# Altium footprint library JST-XH.PcbLib: 31 footprints (part 2 of 2)
Each footprint in its own frame and in the unit in brackets; x right, y up, seen from the top. Pads: shape width x height; smd on the part's side, far side on the other; paste and mask are expansions set on the pad; w line width, h text height; cw(c..) or ccw(c..) is an arc to the next point about the centre after c.
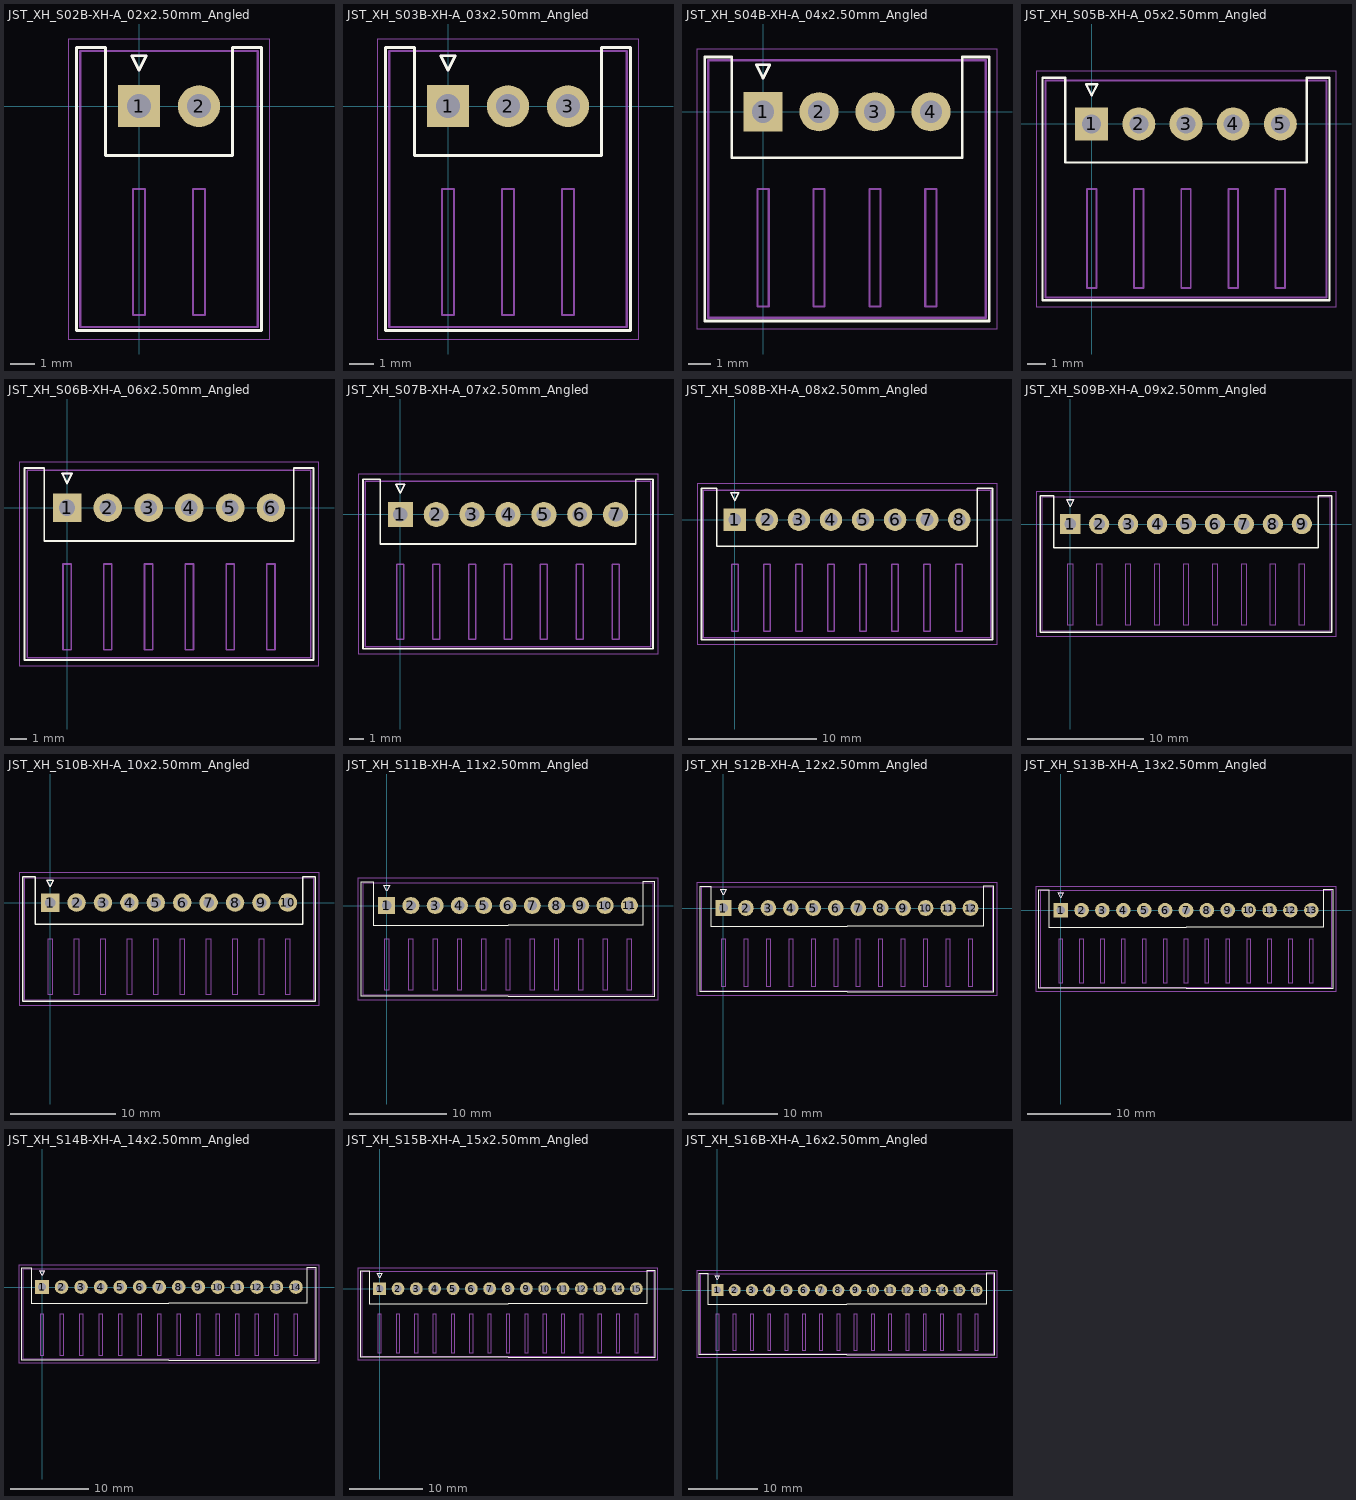
[diagram p1: the footprints below, top view; thin cyan lines are the x and y axes]

## JST_XH_S02B-XH-A_02x2.50mm_Angled [mm]
pads (2):
  rect 1.75x1.75 hole 1: 1(0,0)
  round 1.75 hole 1: 2(2.5,0)
F.SilkS:
  lines w0.12: -2.6,-9.35 1.25,-9.35 5.1,-9.35 5.1,2.45 3.9,2.45 3.9,-2.05 1.25,-2.05 -1.4,-2.05 -1.4,2.45 -2.6,2.45 -2.6,-9.35 ; -0.3,2.1 0,1.5 0.3,2.1 -0.3,2.1
F.CrtYd:
  lines w0.05: -2.95,-9.7 -2.95,2.8 5.45,2.8 5.45,-9.7 -2.95,-9.7
F.Fab:
  lines w0.1: -2.45,-9.2 -2.45,2.3 4.95,2.3 4.95,-9.2 -2.45,-9.2 ; -0.3,2.1 0,1.5 0.3,2.1 -0.3,2.1 ; -0.25,-8.7 -0.25,-3.45 0.25,-3.45 0.25,-8.7 -0.25,-8.7 ; 2.25,-8.7 2.25,-3.45 2.75,-3.45 2.75,-8.7 2.25,-8.7
  text "'.Designator'" at -0.189,-2.648 h1

## JST_XH_S03B-XH-A_03x2.50mm_Angled [mm]
pads (3):
  rect 1.75x1.75 hole 1: 1(0,0)
  round 1.75 hole 1: 2(2.5,0) 3(5,0)
F.SilkS:
  lines w0.12: -2.6,-9.35 2.5,-9.35 7.6,-9.35 7.6,2.45 6.4,2.45 6.4,-2.05 2.5,-2.05 -1.4,-2.05 -1.4,2.45 -2.6,2.45 -2.6,-9.35 ; -0.3,2.1 0,1.5 0.3,2.1 -0.3,2.1
F.CrtYd:
  lines w0.05: -2.95,-9.7 -2.95,2.8 7.95,2.8 7.95,-9.7 -2.95,-9.7
F.Fab:
  lines w0.1: -2.45,-9.2 -2.45,2.3 7.45,2.3 7.45,-9.2 -2.45,-9.2 ; -0.3,2.1 0,1.5 0.3,2.1 -0.3,2.1 ; -0.25,-8.7 -0.25,-3.45 0.25,-3.45 0.25,-8.7 -0.25,-8.7 ; 2.25,-8.7 2.25,-3.45 2.75,-3.45 2.75,-8.7 2.25,-8.7 ; 4.75,-8.7 4.75,-3.45 5.25,-3.45 5.25,-8.7 4.75,-8.7
  text "'.Designator'" at 1.061,-2.648 h1

## JST_XH_S04B-XH-A_04x2.50mm_Angled [mm]
pads (4):
  rect 1.75x1.75 hole 1: 1(0,0)
  round 1.75 hole 1: 2(2.5,0) 3(5,0) 4(7.5,0)
F.SilkS:
  lines w0.12: -2.6,-9.35 3.75,-9.35 10.1,-9.35 10.1,2.45 8.9,2.45 8.9,-2.05 3.75,-2.05 -1.4,-2.05 -1.4,2.45 -2.6,2.45 -2.6,-9.35 ; -0.3,2.1 0,1.5 0.3,2.1 -0.3,2.1
F.CrtYd:
  lines w0.05: -2.95,-9.7 -2.95,2.8 10.45,2.8 10.45,-9.7 -2.95,-9.7
F.Fab:
  lines w0.1: -2.45,-9.2 -2.45,2.3 9.95,2.3 9.95,-9.2 -2.45,-9.2 ; -0.3,2.1 0,1.5 0.3,2.1 -0.3,2.1 ; -0.25,-8.7 -0.25,-3.45 0.25,-3.45 0.25,-8.7 -0.25,-8.7 ; 2.25,-8.7 2.25,-3.45 2.75,-3.45 2.75,-8.7 2.25,-8.7 ; 4.75,-8.7 4.75,-3.45 5.25,-3.45 5.25,-8.7 4.75,-8.7 ; 7.25,-8.7 7.25,-3.45 7.75,-3.45 7.75,-8.7 7.25,-8.7
  text "'.Designator'" at 2.311,-2.648 h1

## JST_XH_S05B-XH-A_05x2.50mm_Angled [mm]
pads (5):
  rect 1.75x1.75 hole 1: 1(0,0)
  round 1.75 hole 1: 2(2.5,0) 3(5,0) 4(7.5,0) 5(10,0)
F.SilkS:
  lines w0.12: -2.6,-9.35 5,-9.35 12.6,-9.35 12.6,2.45 11.4,2.45 11.4,-2.05 5,-2.05 -1.4,-2.05 -1.4,2.45 -2.6,2.45 -2.6,-9.35 ; -0.3,2.1 0,1.5 0.3,2.1 -0.3,2.1
F.CrtYd:
  lines w0.05: -2.95,-9.7 -2.95,2.8 12.95,2.8 12.95,-9.7 -2.95,-9.7
F.Fab:
  lines w0.1: -2.45,-9.2 -2.45,2.3 12.45,2.3 12.45,-9.2 -2.45,-9.2 ; -0.3,2.1 0,1.5 0.3,2.1 -0.3,2.1 ; -0.25,-8.7 -0.25,-3.45 0.25,-3.45 0.25,-8.7 -0.25,-8.7 ; 2.25,-8.7 2.25,-3.45 2.75,-3.45 2.75,-8.7 2.25,-8.7 ; 4.75,-8.7 4.75,-3.45 5.25,-3.45 5.25,-8.7 4.75,-8.7 ; 7.25,-8.7 7.25,-3.45 7.75,-3.45 7.75,-8.7 7.25,-8.7 ; 9.75,-8.7 9.75,-3.45 10.25,-3.45 10.25,-8.7 9.75,-8.7
  text "'.Designator'" at 3.561,-2.648 h1

## JST_XH_S06B-XH-A_06x2.50mm_Angled [mm]
pads (6):
  rect 1.75x1.75 hole 1: 1(0,0)
  round 1.75 hole 1: 2(2.5,0) 3(5,0) 4(7.5,0) 5(10,0) 6(12.5,0)
F.SilkS:
  lines w0.12: -2.6,-9.35 6.25,-9.35 15.1,-9.35 15.1,2.45 13.9,2.45 13.9,-2.05 6.25,-2.05 -1.4,-2.05 -1.4,2.45 -2.6,2.45 -2.6,-9.35 ; -0.3,2.1 0,1.5 0.3,2.1 -0.3,2.1
F.CrtYd:
  lines w0.05: -2.95,-9.7 -2.95,2.8 15.45,2.8 15.45,-9.7 -2.95,-9.7
F.Fab:
  lines w0.1: -2.45,-9.2 -2.45,2.3 14.95,2.3 14.95,-9.2 -2.45,-9.2 ; -0.3,2.1 0,1.5 0.3,2.1 -0.3,2.1 ; -0.25,-8.7 -0.25,-3.45 0.25,-3.45 0.25,-8.7 -0.25,-8.7 ; 2.25,-8.7 2.25,-3.45 2.75,-3.45 2.75,-8.7 2.25,-8.7 ; 4.75,-8.7 4.75,-3.45 5.25,-3.45 5.25,-8.7 4.75,-8.7 ; 7.25,-8.7 7.25,-3.45 7.75,-3.45 7.75,-8.7 7.25,-8.7 ; 9.75,-8.7 9.75,-3.45 10.25,-3.45 10.25,-8.7 9.75,-8.7 ; 12.25,-8.7 12.25,-3.45 12.75,-3.45 12.75,-8.7 12.25,-8.7
  text "'.Designator'" at 4.811,-2.648 h1

## JST_XH_S07B-XH-A_07x2.50mm_Angled [mm]
pads (7):
  rect 1.75x1.75 hole 1: 1(0,0)
  round 1.75 hole 1: 2(2.5,0) 3(5,0) 4(7.5,0) 5(10,0) 6(12.5,0) 7(15,0)
F.SilkS:
  lines w0.12: -2.6,-9.35 7.5,-9.35 17.6,-9.35 17.6,2.45 16.4,2.45 16.4,-2.05 7.5,-2.05 -1.4,-2.05 -1.4,2.45 -2.6,2.45 -2.6,-9.35 ; -0.3,2.1 0,1.5 0.3,2.1 -0.3,2.1
F.CrtYd:
  lines w0.05: -2.95,-9.7 -2.95,2.8 17.95,2.8 17.95,-9.7 -2.95,-9.7
F.Fab:
  lines w0.1: -2.45,-9.2 -2.45,2.3 17.45,2.3 17.45,-9.2 -2.45,-9.2 ; -0.3,2.1 0,1.5 0.3,2.1 -0.3,2.1 ; -0.25,-8.7 -0.25,-3.45 0.25,-3.45 0.25,-8.7 -0.25,-8.7 ; 2.25,-8.7 2.25,-3.45 2.75,-3.45 2.75,-8.7 2.25,-8.7 ; 4.75,-8.7 4.75,-3.45 5.25,-3.45 5.25,-8.7 4.75,-8.7 ; 7.25,-8.7 7.25,-3.45 7.75,-3.45 7.75,-8.7 7.25,-8.7 ; 9.75,-8.7 9.75,-3.45 10.25,-3.45 10.25,-8.7 9.75,-8.7 ; 12.25,-8.7 12.25,-3.45 12.75,-3.45 12.75,-8.7 12.25,-8.7 ; 14.75,-8.7 14.75,-3.45 15.25,-3.45 15.25,-8.7 14.75,-8.7
  text "'.Designator'" at 6.061,-2.648 h1

## JST_XH_S08B-XH-A_08x2.50mm_Angled [mm]
pads (8):
  rect 1.75x1.75 hole 1: 1(0,0)
  round 1.75 hole 1: 2(2.5,0) 3(5,0) 4(7.5,0) 5(10,0) 6(12.5,0) 7(15,0) 8(17.5,0)
F.SilkS:
  lines w0.12: -2.6,-9.35 8.75,-9.35 20.1,-9.35 20.1,2.45 18.9,2.45 18.9,-2.05 8.75,-2.05 -1.4,-2.05 -1.4,2.45 -2.6,2.45 -2.6,-9.35 ; -0.3,2.1 0,1.5 0.3,2.1 -0.3,2.1
F.CrtYd:
  lines w0.05: -2.95,-9.7 -2.95,2.8 20.45,2.8 20.45,-9.7 -2.95,-9.7
F.Fab:
  lines w0.1: -2.45,-9.2 -2.45,2.3 19.95,2.3 19.95,-9.2 -2.45,-9.2 ; -0.3,2.1 0,1.5 0.3,2.1 -0.3,2.1 ; -0.25,-8.7 -0.25,-3.45 0.25,-3.45 0.25,-8.7 -0.25,-8.7 ; 2.25,-8.7 2.25,-3.45 2.75,-3.45 2.75,-8.7 2.25,-8.7 ; 4.75,-8.7 4.75,-3.45 5.25,-3.45 5.25,-8.7 4.75,-8.7 ; 7.25,-8.7 7.25,-3.45 7.75,-3.45 7.75,-8.7 7.25,-8.7 ; 9.75,-8.7 9.75,-3.45 10.25,-3.45 10.25,-8.7 9.75,-8.7 ; 12.25,-8.7 12.25,-3.45 12.75,-3.45 12.75,-8.7 12.25,-8.7 ; 14.75,-8.7 14.75,-3.45 15.25,-3.45 15.25,-8.7 14.75,-8.7 ; 17.25,-8.7 17.25,-3.45 17.75,-3.45 17.75,-8.7 17.25,-8.7
  text "'.Designator'" at 7.311,-2.648 h1

## JST_XH_S09B-XH-A_09x2.50mm_Angled [mm]
pads (9):
  rect 1.75x1.75 hole 1: 1(0,0)
  round 1.75 hole 1: 2(2.5,0) 3(5,0) 4(7.5,0) 5(10,0) 6(12.5,0) 7(15,0) 8(17.5,0) 9(20,0)
F.SilkS:
  lines w0.12: -2.6,-9.35 10,-9.35 22.6,-9.35 22.6,2.45 21.4,2.45 21.4,-2.05 10,-2.05 -1.4,-2.05 -1.4,2.45 -2.6,2.45 -2.6,-9.35 ; -0.3,2.1 0,1.5 0.3,2.1 -0.3,2.1
F.CrtYd:
  lines w0.05: -2.95,-9.7 -2.95,2.8 22.95,2.8 22.95,-9.7 -2.95,-9.7
F.Fab:
  lines w0.1: -2.45,-9.2 -2.45,2.3 22.45,2.3 22.45,-9.2 -2.45,-9.2 ; -0.3,2.1 0,1.5 0.3,2.1 -0.3,2.1 ; -0.25,-8.7 -0.25,-3.45 0.25,-3.45 0.25,-8.7 -0.25,-8.7 ; 2.25,-8.7 2.25,-3.45 2.75,-3.45 2.75,-8.7 2.25,-8.7 ; 4.75,-8.7 4.75,-3.45 5.25,-3.45 5.25,-8.7 4.75,-8.7 ; 7.25,-8.7 7.25,-3.45 7.75,-3.45 7.75,-8.7 7.25,-8.7 ; 9.75,-8.7 9.75,-3.45 10.25,-3.45 10.25,-8.7 9.75,-8.7 ; 12.25,-8.7 12.25,-3.45 12.75,-3.45 12.75,-8.7 12.25,-8.7 ; 14.75,-8.7 14.75,-3.45 15.25,-3.45 15.25,-8.7 14.75,-8.7 ; 17.25,-8.7 17.25,-3.45 17.75,-3.45 17.75,-8.7 17.25,-8.7 ; 19.75,-8.7 19.75,-3.45 20.25,-3.45 20.25,-8.7 19.75,-8.7
  text "'.Designator'" at 8.561,-2.648 h1

## JST_XH_S10B-XH-A_10x2.50mm_Angled [mm]
pads (10):
  rect 1.75x1.75 hole 1: 1(0,0)
  round 1.75 hole 1: 2(2.5,0) 3(5,0) 4(7.5,0) 5(10,0) 6(12.5,0) 7(15,0) 8(17.5,0) 9(20,0) 10(22.5,0)
F.SilkS:
  lines w0.12: -2.6,-9.35 11.25,-9.35 25.1,-9.35 25.1,2.45 23.9,2.45 23.9,-2.05 11.25,-2.05 -1.4,-2.05 -1.4,2.45 -2.6,2.45 -2.6,-9.35 ; -0.3,2.1 0,1.5 0.3,2.1 -0.3,2.1
F.CrtYd:
  lines w0.05: -2.95,-9.7 -2.95,2.8 25.45,2.8 25.45,-9.7 -2.95,-9.7
F.Fab:
  lines w0.1: -2.45,-9.2 -2.45,2.3 24.95,2.3 24.95,-9.2 -2.45,-9.2 ; -0.3,2.1 0,1.5 0.3,2.1 -0.3,2.1 ; -0.25,-8.7 -0.25,-3.45 0.25,-3.45 0.25,-8.7 -0.25,-8.7 ; 2.25,-8.7 2.25,-3.45 2.75,-3.45 2.75,-8.7 2.25,-8.7 ; 4.75,-8.7 4.75,-3.45 5.25,-3.45 5.25,-8.7 4.75,-8.7 ; 7.25,-8.7 7.25,-3.45 7.75,-3.45 7.75,-8.7 7.25,-8.7 ; 9.75,-8.7 9.75,-3.45 10.25,-3.45 10.25,-8.7 9.75,-8.7 ; 12.25,-8.7 12.25,-3.45 12.75,-3.45 12.75,-8.7 12.25,-8.7 ; 14.75,-8.7 14.75,-3.45 15.25,-3.45 15.25,-8.7 14.75,-8.7 ; 17.25,-8.7 17.25,-3.45 17.75,-3.45 17.75,-8.7 17.25,-8.7 ; 19.75,-8.7 19.75,-3.45 20.25,-3.45 20.25,-8.7 19.75,-8.7 ; 22.25,-8.7 22.25,-3.45 22.75,-3.45 22.75,-8.7 22.25,-8.7
  text "'.Designator'" at 9.811,-2.648 h1

## JST_XH_S11B-XH-A_11x2.50mm_Angled [mm]
pads (11):
  rect 1.75x1.75 hole 1: 1(0,0)
  round 1.75 hole 1: 2(2.5,0) 3(5,0) 4(7.5,0) 5(10,0) 6(12.5,0) 7(15,0) 8(17.5,0) 9(20,0) 10(22.5,0) 11(25,0)
F.SilkS:
  lines w0.12: -2.6,-9.35 12.5,-9.35 27.6,-9.35 27.6,2.45 26.4,2.45 26.4,-2.05 12.5,-2.05 -1.4,-2.05 -1.4,2.45 -2.6,2.45 -2.6,-9.35 ; -0.3,2.1 0,1.5 0.3,2.1 -0.3,2.1
F.CrtYd:
  lines w0.05: -2.95,-9.7 -2.95,2.8 27.95,2.8 27.95,-9.7 -2.95,-9.7
F.Fab:
  lines w0.1: -2.45,-9.2 -2.45,2.3 27.45,2.3 27.45,-9.2 -2.45,-9.2 ; -0.3,2.1 0,1.5 0.3,2.1 -0.3,2.1 ; -0.25,-8.7 -0.25,-3.45 0.25,-3.45 0.25,-8.7 -0.25,-8.7 ; 2.25,-8.7 2.25,-3.45 2.75,-3.45 2.75,-8.7 2.25,-8.7 ; 4.75,-8.7 4.75,-3.45 5.25,-3.45 5.25,-8.7 4.75,-8.7 ; 7.25,-8.7 7.25,-3.45 7.75,-3.45 7.75,-8.7 7.25,-8.7 ; 9.75,-8.7 9.75,-3.45 10.25,-3.45 10.25,-8.7 9.75,-8.7 ; 12.25,-8.7 12.25,-3.45 12.75,-3.45 12.75,-8.7 12.25,-8.7 ; 14.75,-8.7 14.75,-3.45 15.25,-3.45 15.25,-8.7 14.75,-8.7 ; 17.25,-8.7 17.25,-3.45 17.75,-3.45 17.75,-8.7 17.25,-8.7 ; 19.75,-8.7 19.75,-3.45 20.25,-3.45 20.25,-8.7 19.75,-8.7 ; 22.25,-8.7 22.25,-3.45 22.75,-3.45 22.75,-8.7 22.25,-8.7 ; 24.75,-8.7 24.75,-3.45 25.25,-3.45 25.25,-8.7 24.75,-8.7
  text "'.Designator'" at 11.061,-2.648 h1

## JST_XH_S12B-XH-A_12x2.50mm_Angled [mm]
pads (12):
  rect 1.75x1.75 hole 1: 1(0,0)
  round 1.75 hole 1: 2(2.5,0) 3(5,0) 4(7.5,0) 5(10,0) 6(12.5,0) 7(15,0) 8(17.5,0) 9(20,0) 10(22.5,0) 11(25,0) 12(27.5,0)
F.SilkS:
  lines w0.12: -2.6,-9.35 13.75,-9.35 30.1,-9.35 30.1,2.45 28.9,2.45 28.9,-2.05 13.75,-2.05 -1.4,-2.05 -1.4,2.45 -2.6,2.45 -2.6,-9.35 ; -0.3,2.1 0,1.5 0.3,2.1 -0.3,2.1
F.CrtYd:
  lines w0.05: -2.95,-9.7 -2.95,2.8 30.45,2.8 30.45,-9.7 -2.95,-9.7
F.Fab:
  lines w0.1: -2.45,-9.2 -2.45,2.3 29.95,2.3 29.95,-9.2 -2.45,-9.2 ; -0.3,2.1 0,1.5 0.3,2.1 -0.3,2.1 ; -0.25,-8.7 -0.25,-3.45 0.25,-3.45 0.25,-8.7 -0.25,-8.7 ; 2.25,-8.7 2.25,-3.45 2.75,-3.45 2.75,-8.7 2.25,-8.7 ; 4.75,-8.7 4.75,-3.45 5.25,-3.45 5.25,-8.7 4.75,-8.7 ; 7.25,-8.7 7.25,-3.45 7.75,-3.45 7.75,-8.7 7.25,-8.7 ; 9.75,-8.7 9.75,-3.45 10.25,-3.45 10.25,-8.7 9.75,-8.7 ; 12.25,-8.7 12.25,-3.45 12.75,-3.45 12.75,-8.7 12.25,-8.7 ; 14.75,-8.7 14.75,-3.45 15.25,-3.45 15.25,-8.7 14.75,-8.7 ; 17.25,-8.7 17.25,-3.45 17.75,-3.45 17.75,-8.7 17.25,-8.7 ; 19.75,-8.7 19.75,-3.45 20.25,-3.45 20.25,-8.7 19.75,-8.7 ; 22.25,-8.7 22.25,-3.45 22.75,-3.45 22.75,-8.7 22.25,-8.7 ; 24.75,-8.7 24.75,-3.45 25.25,-3.45 25.25,-8.7 24.75,-8.7 ; 27.25,-8.7 27.25,-3.45 27.75,-3.45 27.75,-8.7 27.25,-8.7
  text "'.Designator'" at 12.311,-2.648 h1

## JST_XH_S13B-XH-A_13x2.50mm_Angled [mm]
pads (13):
  rect 1.75x1.75 hole 1: 1(0,0)
  round 1.75 hole 1: 2(2.5,0) 3(5,0) 4(7.5,0) 5(10,0) 6(12.5,0) 7(15,0) 8(17.5,0) 9(20,0) 10(22.5,0) 11(25,0) 12(27.5,0) 13(30,0)
F.SilkS:
  lines w0.12: -2.6,-9.35 15,-9.35 32.6,-9.35 32.6,2.45 31.4,2.45 31.4,-2.05 15,-2.05 -1.4,-2.05 -1.4,2.45 -2.6,2.45 -2.6,-9.35 ; -0.3,2.1 0,1.5 0.3,2.1 -0.3,2.1
F.CrtYd:
  lines w0.05: -2.95,-9.7 -2.95,2.8 32.95,2.8 32.95,-9.7 -2.95,-9.7
F.Fab:
  lines w0.1: -2.45,-9.2 -2.45,2.3 32.45,2.3 32.45,-9.2 -2.45,-9.2 ; -0.3,2.1 0,1.5 0.3,2.1 -0.3,2.1 ; -0.25,-8.7 -0.25,-3.45 0.25,-3.45 0.25,-8.7 -0.25,-8.7 ; 2.25,-8.7 2.25,-3.45 2.75,-3.45 2.75,-8.7 2.25,-8.7 ; 4.75,-8.7 4.75,-3.45 5.25,-3.45 5.25,-8.7 4.75,-8.7 ; 7.25,-8.7 7.25,-3.45 7.75,-3.45 7.75,-8.7 7.25,-8.7 ; 9.75,-8.7 9.75,-3.45 10.25,-3.45 10.25,-8.7 9.75,-8.7 ; 12.25,-8.7 12.25,-3.45 12.75,-3.45 12.75,-8.7 12.25,-8.7 ; 14.75,-8.7 14.75,-3.45 15.25,-3.45 15.25,-8.7 14.75,-8.7 ; 17.25,-8.7 17.25,-3.45 17.75,-3.45 17.75,-8.7 17.25,-8.7 ; 19.75,-8.7 19.75,-3.45 20.25,-3.45 20.25,-8.7 19.75,-8.7 ; 22.25,-8.7 22.25,-3.45 22.75,-3.45 22.75,-8.7 22.25,-8.7 ; 24.75,-8.7 24.75,-3.45 25.25,-3.45 25.25,-8.7 24.75,-8.7 ; 27.25,-8.7 27.25,-3.45 27.75,-3.45 27.75,-8.7 27.25,-8.7 ; 29.75,-8.7 29.75,-3.45 30.25,-3.45 30.25,-8.7 29.75,-8.7
  text "'.Designator'" at 13.561,-2.648 h1

## JST_XH_S14B-XH-A_14x2.50mm_Angled [mm]
pads (14):
  rect 1.75x1.75 hole 1: 1(0,0)
  round 1.75 hole 1: 2(2.5,0) 3(5,0) 4(7.5,0) 5(10,0) 6(12.5,0) 7(15,0) 8(17.5,0) 9(20,0) 10(22.5,0) 11(25,0) 12(27.5,0) 13(30,0) 14(32.5,0)
F.SilkS:
  lines w0.12: -2.6,-9.35 16.25,-9.35 35.1,-9.35 35.1,2.45 33.9,2.45 33.9,-2.05 16.25,-2.05 -1.4,-2.05 -1.4,2.45 -2.6,2.45 -2.6,-9.35 ; -0.3,2.1 0,1.5 0.3,2.1 -0.3,2.1
F.CrtYd:
  lines w0.05: -2.95,-9.7 -2.95,2.8 35.45,2.8 35.45,-9.7 -2.95,-9.7
F.Fab:
  lines w0.1: -2.45,-9.2 -2.45,2.3 34.95,2.3 34.95,-9.2 -2.45,-9.2 ; -0.3,2.1 0,1.5 0.3,2.1 -0.3,2.1 ; -0.25,-8.7 -0.25,-3.45 0.25,-3.45 0.25,-8.7 -0.25,-8.7 ; 2.25,-8.7 2.25,-3.45 2.75,-3.45 2.75,-8.7 2.25,-8.7 ; 4.75,-8.7 4.75,-3.45 5.25,-3.45 5.25,-8.7 4.75,-8.7 ; 7.25,-8.7 7.25,-3.45 7.75,-3.45 7.75,-8.7 7.25,-8.7 ; 9.75,-8.7 9.75,-3.45 10.25,-3.45 10.25,-8.7 9.75,-8.7 ; 12.25,-8.7 12.25,-3.45 12.75,-3.45 12.75,-8.7 12.25,-8.7 ; 14.75,-8.7 14.75,-3.45 15.25,-3.45 15.25,-8.7 14.75,-8.7 ; 17.25,-8.7 17.25,-3.45 17.75,-3.45 17.75,-8.7 17.25,-8.7 ; 19.75,-8.7 19.75,-3.45 20.25,-3.45 20.25,-8.7 19.75,-8.7 ; 22.25,-8.7 22.25,-3.45 22.75,-3.45 22.75,-8.7 22.25,-8.7 ; 24.75,-8.7 24.75,-3.45 25.25,-3.45 25.25,-8.7 24.75,-8.7 ; 27.25,-8.7 27.25,-3.45 27.75,-3.45 27.75,-8.7 27.25,-8.7 ; 29.75,-8.7 29.75,-3.45 30.25,-3.45 30.25,-8.7 29.75,-8.7 ; 32.25,-8.7 32.25,-3.45 32.75,-3.45 32.75,-8.7 32.25,-8.7
  text "'.Designator'" at 14.811,-2.648 h1

## JST_XH_S15B-XH-A_15x2.50mm_Angled [mm]
pads (15):
  rect 1.75x1.75 hole 1: 1(0,0)
  round 1.75 hole 1: 2(2.5,0) 3(5,0) 4(7.5,0) 5(10,0) 6(12.5,0) 7(15,0) 8(17.5,0) 9(20,0) 10(22.5,0) 11(25,0) 12(27.5,0) 13(30,0) 14(32.5,0) 15(35,0)
F.SilkS:
  lines w0.12: -2.6,-9.35 17.5,-9.35 37.6,-9.35 37.6,2.45 36.4,2.45 36.4,-2.05 17.5,-2.05 -1.4,-2.05 -1.4,2.45 -2.6,2.45 -2.6,-9.35 ; -0.3,2.1 0,1.5 0.3,2.1 -0.3,2.1
F.CrtYd:
  lines w0.05: -2.95,-9.7 -2.95,2.8 37.95,2.8 37.95,-9.7 -2.95,-9.7
F.Fab:
  lines w0.1: -2.45,-9.2 -2.45,2.3 37.45,2.3 37.45,-9.2 -2.45,-9.2 ; -0.3,2.1 0,1.5 0.3,2.1 -0.3,2.1 ; -0.25,-8.7 -0.25,-3.45 0.25,-3.45 0.25,-8.7 -0.25,-8.7 ; 2.25,-8.7 2.25,-3.45 2.75,-3.45 2.75,-8.7 2.25,-8.7 ; 4.75,-8.7 4.75,-3.45 5.25,-3.45 5.25,-8.7 4.75,-8.7 ; 7.25,-8.7 7.25,-3.45 7.75,-3.45 7.75,-8.7 7.25,-8.7 ; 9.75,-8.7 9.75,-3.45 10.25,-3.45 10.25,-8.7 9.75,-8.7 ; 12.25,-8.7 12.25,-3.45 12.75,-3.45 12.75,-8.7 12.25,-8.7 ; 14.75,-8.7 14.75,-3.45 15.25,-3.45 15.25,-8.7 14.75,-8.7 ; 17.25,-8.7 17.25,-3.45 17.75,-3.45 17.75,-8.7 17.25,-8.7 ; 19.75,-8.7 19.75,-3.45 20.25,-3.45 20.25,-8.7 19.75,-8.7 ; 22.25,-8.7 22.25,-3.45 22.75,-3.45 22.75,-8.7 22.25,-8.7 ; 24.75,-8.7 24.75,-3.45 25.25,-3.45 25.25,-8.7 24.75,-8.7 ; 27.25,-8.7 27.25,-3.45 27.75,-3.45 27.75,-8.7 27.25,-8.7 ; 29.75,-8.7 29.75,-3.45 30.25,-3.45 30.25,-8.7 29.75,-8.7 ; 32.25,-8.7 32.25,-3.45 32.75,-3.45 32.75,-8.7 32.25,-8.7 ; 34.75,-8.7 34.75,-3.45 35.25,-3.45 35.25,-8.7 34.75,-8.7
  text "'.Designator'" at 16.061,-2.648 h1

## JST_XH_S16B-XH-A_16x2.50mm_Angled [mm]
pads (16):
  rect 1.75x1.75 hole 1: 1(0,0)
  round 1.75 hole 1: 2(2.5,0) 3(5,0) 4(7.5,0) 5(10,0) 6(12.5,0) 7(15,0) 8(17.5,0) 9(20,0) 10(22.5,0) 11(25,0) 12(27.5,0) 13(30,0) 14(32.5,0) 15(35,0) 16(37.5,0)
F.SilkS:
  lines w0.12: -2.6,-9.35 18.75,-9.35 40.1,-9.35 40.1,2.45 38.9,2.45 38.9,-2.05 18.75,-2.05 -1.4,-2.05 -1.4,2.45 -2.6,2.45 -2.6,-9.35 ; -0.3,2.1 0,1.5 0.3,2.1 -0.3,2.1
F.CrtYd:
  lines w0.05: -2.95,-9.7 -2.95,2.8 40.45,2.8 40.45,-9.7 -2.95,-9.7
F.Fab:
  lines w0.1: -2.45,-9.2 -2.45,2.3 39.95,2.3 39.95,-9.2 -2.45,-9.2 ; -0.3,2.1 0,1.5 0.3,2.1 -0.3,2.1 ; -0.25,-8.7 -0.25,-3.45 0.25,-3.45 0.25,-8.7 -0.25,-8.7 ; 2.25,-8.7 2.25,-3.45 2.75,-3.45 2.75,-8.7 2.25,-8.7 ; 4.75,-8.7 4.75,-3.45 5.25,-3.45 5.25,-8.7 4.75,-8.7 ; 7.25,-8.7 7.25,-3.45 7.75,-3.45 7.75,-8.7 7.25,-8.7 ; 9.75,-8.7 9.75,-3.45 10.25,-3.45 10.25,-8.7 9.75,-8.7 ; 12.25,-8.7 12.25,-3.45 12.75,-3.45 12.75,-8.7 12.25,-8.7 ; 14.75,-8.7 14.75,-3.45 15.25,-3.45 15.25,-8.7 14.75,-8.7 ; 17.25,-8.7 17.25,-3.45 17.75,-3.45 17.75,-8.7 17.25,-8.7 ; 19.75,-8.7 19.75,-3.45 20.25,-3.45 20.25,-8.7 19.75,-8.7 ; 22.25,-8.7 22.25,-3.45 22.75,-3.45 22.75,-8.7 22.25,-8.7 ; 24.75,-8.7 24.75,-3.45 25.25,-3.45 25.25,-8.7 24.75,-8.7 ; 27.25,-8.7 27.25,-3.45 27.75,-3.45 27.75,-8.7 27.25,-8.7 ; 29.75,-8.7 29.75,-3.45 30.25,-3.45 30.25,-8.7 29.75,-8.7 ; 32.25,-8.7 32.25,-3.45 32.75,-3.45 32.75,-8.7 32.25,-8.7 ; 34.75,-8.7 34.75,-3.45 35.25,-3.45 35.25,-8.7 34.75,-8.7 ; 37.25,-8.7 37.25,-3.45 37.75,-3.45 37.75,-8.7 37.25,-8.7
  text "'.Designator'" at 17.311,-2.648 h1